# EAGLE library part M20 (library CARA)
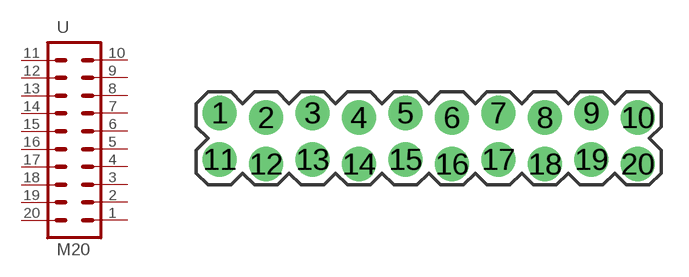
[diagram p7: symbol with the pads of 2X10_LOCK; footprint 2X10_LOCK]

Designator prefix -

## M20  [2X10_LOCK]
1  1  pas
2  2  pas
3  3  pas
4  4  pas
5  5  pas
6  6  pas
7  7  pas
8  8  pas
9  9  pas
10  10  pas
11  11  pas
12  12  pas
13  13  pas
14  14  pas
15  15  pas
16  16  pas
17  17  pas
18  18  pas
19  19  pas
20  20  pas

## Footprint 2X10_LOCK (pad centres in mm)
drill 1.016 pad 1.88: 1 -11.43,1.397; 2 -8.89,1.143; 3 -6.35,1.397; 4 -3.81,1.143; 5 -1.27,1.397; 6 1.27,1.143; 7 3.81,1.397; 8 6.35,1.143; 9 8.89,1.397; 10 11.43,1.143; 11 -11.43,-1.143; 12 -8.89,-1.397; 13 -6.35,-1.143; 14 -3.81,-1.397; 15 -1.27,-1.143; 16 1.27,-1.397; 17 3.81,-1.143; 18 6.35,-1.397; 19 8.89,-1.143; 20 11.43,-1.397